# Altium footprint library BKC.PCBLIB: 5 footprints
Each footprint in its own frame and in the unit in brackets; x right, y up, seen from the top. Pads: shape width x height; smd on the part's side, far side on the other; paste and mask are expansions set on the pad; w line width, h text height; cw(c..) or ccw(c..) is an arc to the next point about the centre after c.
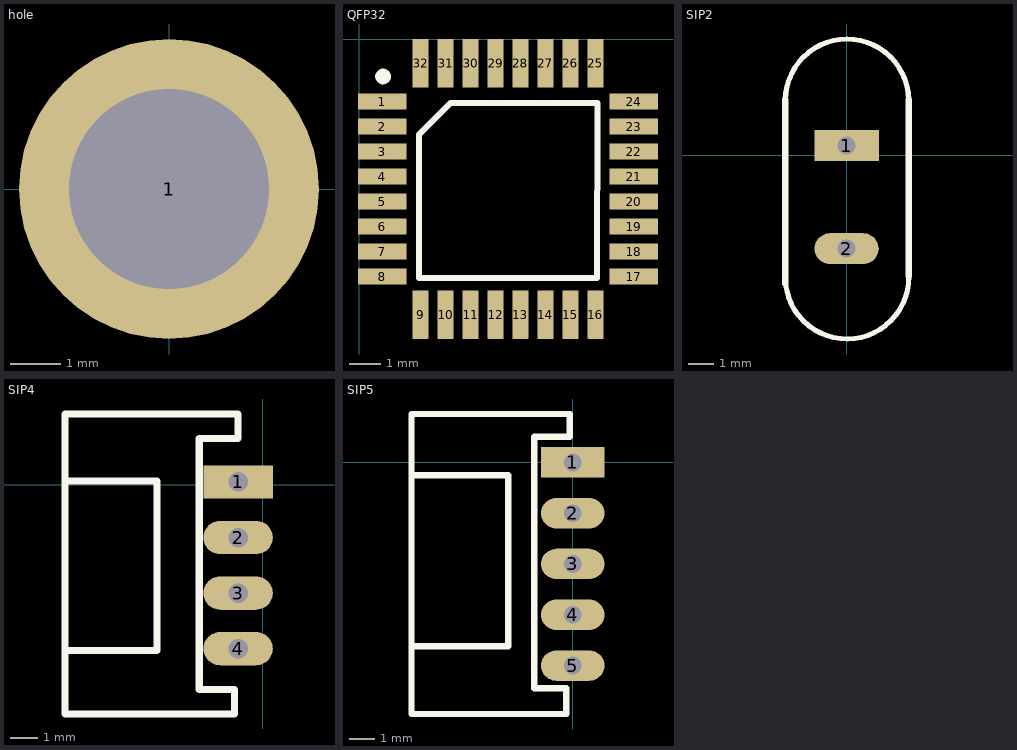
[diagram p0: the footprints below, top view; thin cyan lines are the x and y axes]

## hole [mm]
pads (1):
  round 6 hole 4: 1(0,0)

## QFP32 [mm] "STC12C5204AD Pitch 0.8mm"
height 3
pads (32):
  rect 1.55x0.5 smd: 1(0.731,-1.987) 2(0.731,-2.787) 3(0.731,-3.587) 4(0.731,-4.387) 5(0.731,-5.187) 6(0.731,-5.987) 7(0.731,-6.787) 8(0.731,-7.587) 17(8.781,-7.587) 18(8.781,-6.787) 19(8.781,-5.987) 20(8.781,-5.187) 21(8.781,-4.387) 22(8.781,-3.587) 23(8.781,-2.787) 24(8.781,-1.987)
  rect 0.5x1.55 smd: 9(1.956,-8.812) 10(2.756,-8.812) 11(3.556,-8.812) 12(4.356,-8.812) 13(5.156,-8.812) 14(5.956,-8.812) 15(6.756,-8.812) 16(7.556,-8.812) 25(7.556,-0.762) 26(6.756,-0.762) 27(5.956,-0.762) 28(5.156,-0.762) 29(4.356,-0.762) 30(3.556,-0.762) 31(2.756,-0.762) 32(1.956,-0.762)
Top Overlay:
  circle w0.25: c0.756,-1.187 r0.125
  lines w0.2: 1.905,-3.048 2.921,-2.032 7.62,-2.032 7.606,-7.637 1.906,-7.637 1.905,-3.048

## SIP2 [mm]
pads (2):
  rect 2.5x1.2 hole 0.7: 1(0,0.381)
  oval 2.5x1.2 hole 0.7: 2(0,-3.619)
Top Overlay:
  lines w0.2: -2.38,-4.731 ccw(c0.016,-4.731) 2.413,-4.699 ; -2.38,2.159 cw(c0.016,2.127) 2.413,2.161
  lines w0.254: -2.38,-4.986 -2.38,2.159 ; 2.413,-4.699 2.413,2.161

## SIP4 [mm]
pads (4):
  rect 2.5x1.2 hole 0.7: 1(-0.889,0.095)
  oval 2.5x1.2 hole 0.7: 2(-0.889,-1.905) 3(-0.889,-3.905) 4(-0.889,-5.905)
Top Overlay:
  lines w0.254: -7.112,-5.969 -3.81,-5.969 -3.81,0.127 -7.112,0.127 ; -7.112,-8.255 -7.112,2.54 -0.889,2.54 -0.889,1.651 -2.286,1.651 -2.286,-7.366 -1.016,-7.366 -1.016,-8.255 -7.112,-8.255

## SIP5 [mm]
pads (5):
  rect 2.5x1.2 hole 0.7: 1(0,0)
  oval 2.5x1.2 hole 0.7: 2(0,-2) 3(0,-4) 4(0,-6) 5(0,-8)
Top Overlay:
  lines w0.254: -6.35,-7.239 -2.54,-7.239 -2.54,-0.508 -6.35,-0.508 ; -6.35,-9.906 -0.254,-9.906 -0.254,-8.89 -1.524,-8.89 -1.524,1.016 -0.127,1.016 -0.127,1.905 -6.35,1.905 -6.35,-9.906